# Altium footprint library Logic_lvl_conv.PcbLib: 1 footprints
Each footprint in its own frame and in the unit in brackets; x right, y up, seen from the top. Pads: shape width x height; smd on the part's side, far side on the other; paste and mask are expansions set on the pad; w line width, h text height; cw(c..) or ccw(c..) is an arc to the next point about the centre after c.
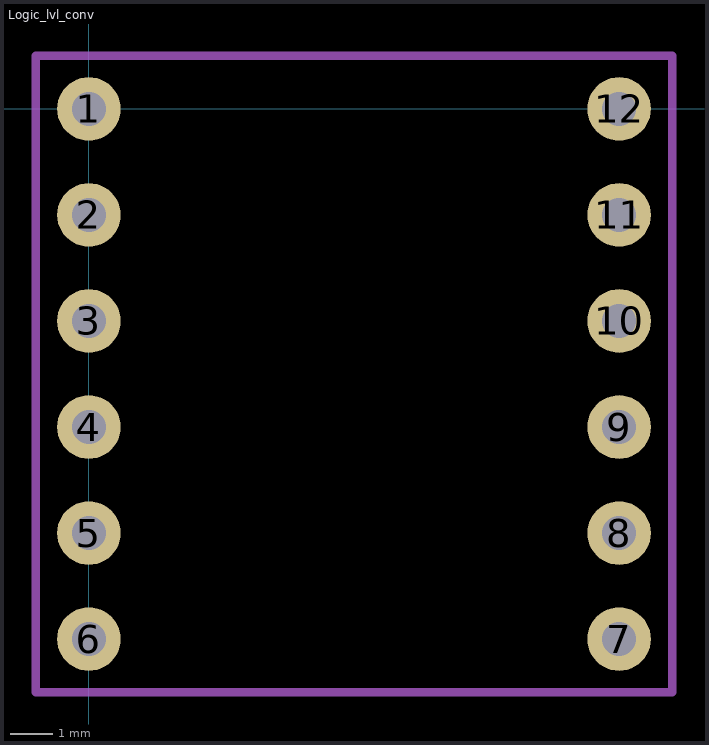
[diagram p0: the footprint, top view; thin cyan lines are the x and y axes]

## Logic_lvl_conv [mm]
pads (12):
  round 1.5 hole 0.8: 1(0,0) 2(0,-2.5) 3(0,-5) 4(0,-7.5) 5(0,-10) 6(0,-12.5) 7(12.5,-12.5) 8(12.5,-10) 9(12.5,-7.5) 10(12.5,-5) 11(12.5,-2.5) 12(12.5,0)
Mechanical 1:
  lines w0.2: -1.25,-13.75 13.75,-13.75 13.75,1.25 -1.25,1.25 -1.25,-13.75